# Altium footprint library HPPC10040-R68M-Q8.PcbLib: 1 footprints
Each footprint in its own frame and in the unit in brackets; x right, y up, seen from the top. Pads: shape width x height; smd on the part's side, far side on the other; paste and mask are expansions set on the pad; w line width, h text height; cw(c..) or ccw(c..) is an arc to the next point about the centre after c.
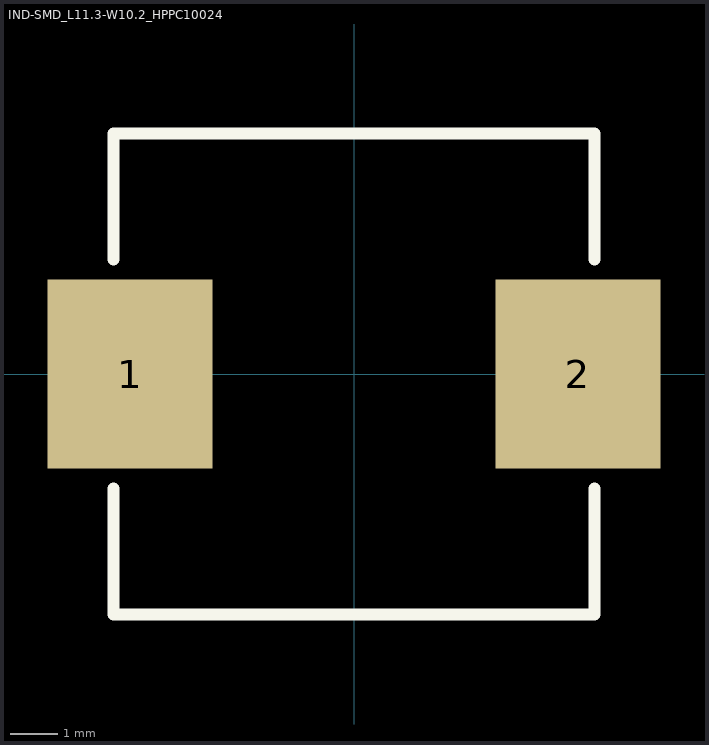
[diagram p0: the footprint, top view; thin cyan lines are the x and y axes]

## IND-SMD_L11.3-W10.2_HPPC10024 [mm]
pads (2):
  rect 3.5x4 smd paste+0 mask+0.051: 1(-4.75,0) 2(4.75,0)
Top Overlay:
  lines w0.254: -5.1,-2.431 -5.1,-5.1 5.1,-5.1 5.1,-2.431 ; -5.1,2.431 -5.1,5.1 5.1,5.1 5.1,2.431